# Altium schematic symbol library New_Library.SchLib: 40 symbols
Pins are listed as number, name and electrical type; pins without a type are passive.

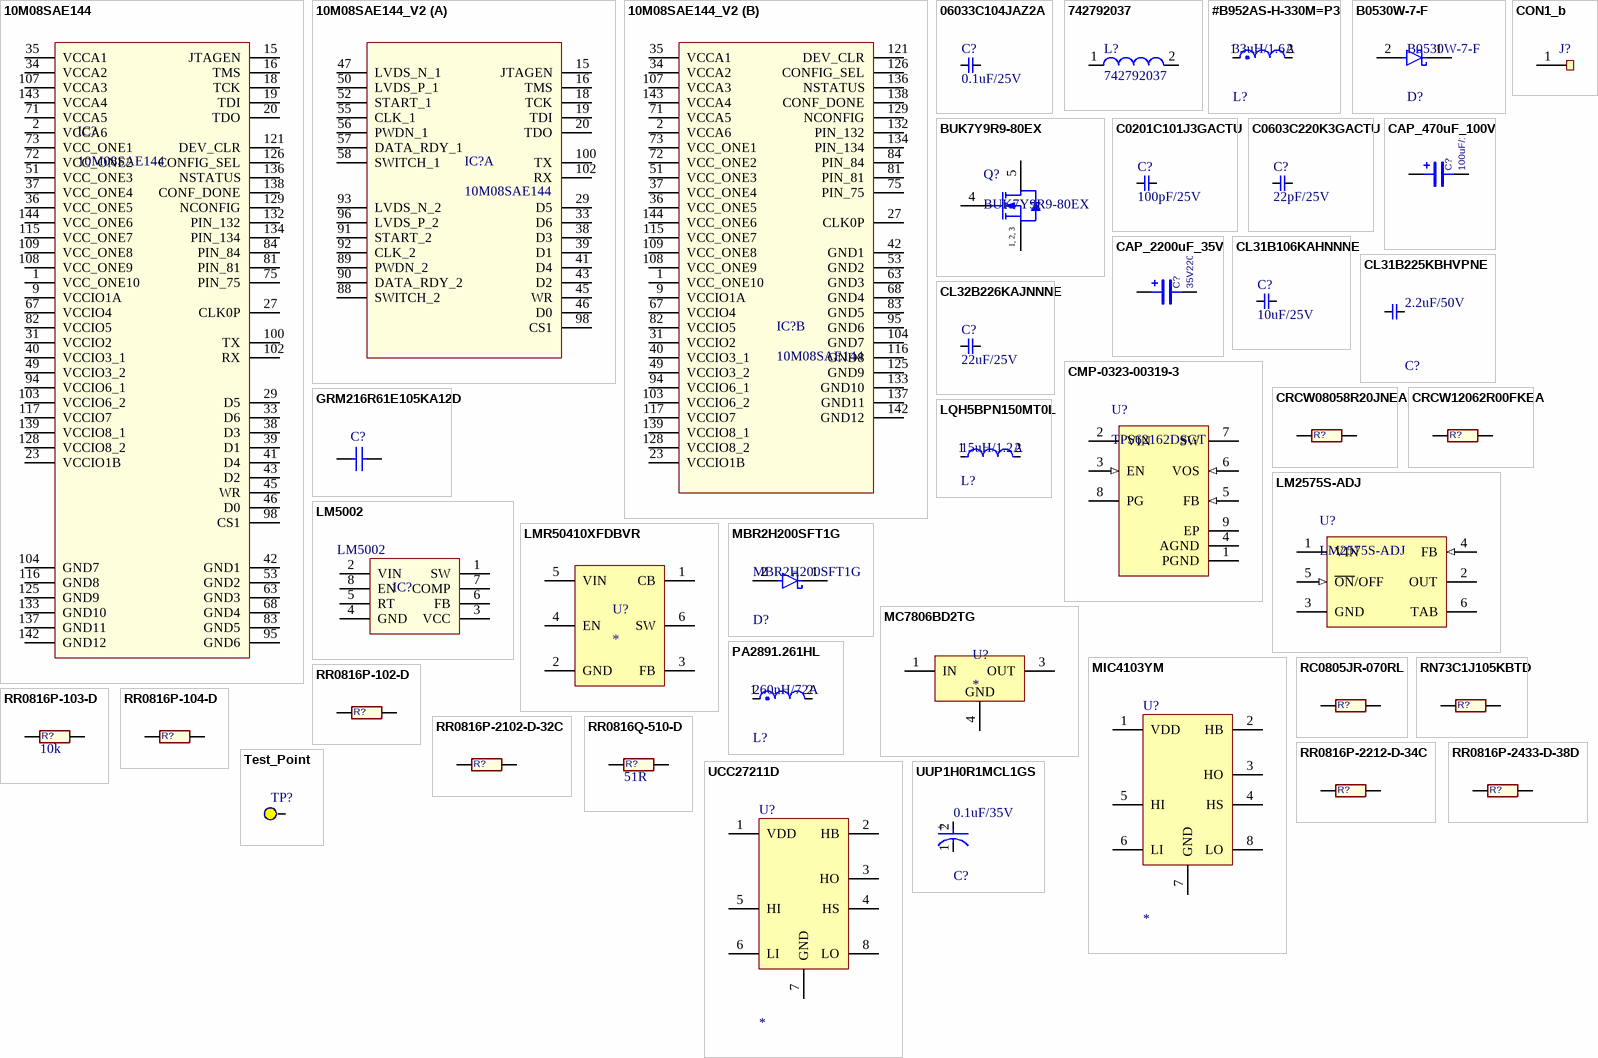
[diagram p0: symbols 10M08SAE144 to UUP1H0R1MCL1GS]

## 10M08SAE144
designator IC?
Manufacturer Part Number: 10M08SAE144C8G; Manufacturer: Intel; Supplier 1: Digi-Key; Supplier Part Number 1: 544-3132-ND
footprint SQFP50P2200X2200X200-144N (SQFP, 144-Leads, Body 20.00x20.00mm, Pitch 0.50mm, IPC Medium Density)
pins: 1 VCC_ONE10, 2 VCCA6, 9 VCCIO1A, 15 JTAGEN, 16 TMS, 18 TCK, 19 TDI, 20 TDO, 23 VCCIO1B, 27 CLK0P, 29 D5, 31 VCCIO2, 33 D6, 34 VCCA2, 35 VCCA1, 36 VCC_ONE5, 37 VCC_ONE4, 38 D3, 39 D1, 40 VCCIO3_1, 41 D4, 42 GND1, 43 D2, 45 WR, 46 D0, 49 VCCIO3_2, 51 VCC_ONE3, 53 GND2, 63 GND3, 67 VCCIO4, 68 GND4, 71 VCCA5, 72 VCC_ONE2, 73 VCC_ONE1, 75 PIN_75, 81 PIN_81, 82 VCCIO5, 83 GND5, 84 PIN_84, 94 VCCIO6_1, 95 GND6, 98 CS1, 100 TX, 102 RX, 103 VCCIO6_2, 104 GND7, 107 VCCA3, 108 VCC_ONE9, 109 VCC_ONE8, 115 VCC_ONE7, 116 GND8, 117 VCCIO7, 121 DEV_CLR, 125 GND9, 126 CONFIG_SEL, 128 VCCIO8_2, 129 NCONFIG, 132 PIN_132, 133 GND10, 134 PIN_134, 136 NSTATUS, 137 GND11, 138 CONF_DONE, 139 VCCIO8_1, 142 GND12, 143 VCCA4, 144 VCC_ONE6

## 10M08SAE144_V2
designator IC?, comment 10M08SAE144
Manufacturer Part Number: 10M08SAE144C8G; Manufacturer: Intel; Supplier 1: Digi-Key; Supplier Part Number 1: 544-3132-ND
footprint SQFP50P2200X2200X200-144N (SQFP, 144-Leads, Body 20.00x20.00mm, Pitch 0.50mm, IPC Medium Density)
part A pins: 15 JTAGEN, 16 TMS, 18 TCK, 19 TDI, 20 TDO, 29 D5, 33 D6, 38 D3, 39 D1, 41 D4, 43 D2, 45 WR, 46 D0, 47 LVDS_N_1, 50 LVDS_P_1, 52 START_1, 55 CLK_1, 56 PWDN_1, 57 DATA_RDY_1, 58 SWITCH_1, 88 SWITCH_2, 89 PWDN_2, 90 DATA_RDY_2, 91 START_2, 92 CLK_2, 93 LVDS_N_2, 96 LVDS_P_2, 98 CS1, 100 TX, 102 RX
part B pins: 1 VCC_ONE10, 2 VCCA6, 9 VCCIO1A, 23 VCCIO1B, 27 CLK0P, 31 VCCIO2, 34 VCCA2, 35 VCCA1, 36 VCC_ONE5, 37 VCC_ONE4, 40 VCCIO3_1, 42 GND1, 49 VCCIO3_2, 51 VCC_ONE3, 53 GND2, 63 GND3, 67 VCCIO4, 68 GND4, 71 VCCA5, 72 VCC_ONE2, 73 VCC_ONE1, 75 PIN_75, 81 PIN_81, 82 VCCIO5, 83 GND5, 84 PIN_84, 94 VCCIO6_1, 95 GND6, 103 VCCIO6_2, 104 GND7, 107 VCCA3, 108 VCC_ONE9, 109 VCC_ONE8, 115 VCC_ONE7, 116 GND8, 117 VCCIO7, 121 DEV_CLR, 125 GND9, 126 CONFIG_SEL, 128 VCCIO8_2, 129 NCONFIG, 132 PIN_132, 133 GND10, 134 PIN_134, 136 NSTATUS, 137 GND11, 138 CONF_DONE, 139 VCCIO8_1, 142 GND12, 143 VCCA4, 144 VCC_ONE6

## 06033C104JAZ2A
designator C?, comment 0.1uF/25V
0.1µF ±5% 25V Ceramic Capacitor X7R 0603 (1608 Metric); Manufacturer: Kyocera AVX; Manufacturer Part Number: 06033C104JAZ2A; Capacitance: 100nF; ComponentLink1URL: http://catalogs.avx.com/SurfaceMount.pdf?src-supplier=Digi-Key; ComponentLink1Description: http://catalogs.avx.com/SurfaceMount.pdf?src-supplier=Digi-Key; Case/Package: 0603; Category: Ceramic Capacitors; Dielectric: X7R; Features: Soft Termination; Length: 0.063inch; Max Operating Temperature: 125°C; Min Operating Temperature: -55°C; Mount: Surface Mount; Package Quantity: 4000; Packaging: Tape and Reel; RoHS Compliant: Yes; Thickness: 0.035inch; Tolerance: 5%; Voltage Rating: 25V; Voltage Rating (DC): 25V; Width: 0.031inch
footprint C-0603 (Capacitors 0603)
pins: 1 G, 2 G

## 742792037
designator L?
SMD EMI Suppression Ferrite Bead WE-CBF, Z = 330 Ohm; Impedance: 330 Ohm; PackageReference: SMD-0805; ComponentLink1URL: http://www.we-online.com; PackageVersion: 2005; ComponentLink2URL: http://www.we-online.de/katalog/media/pdf/742792037.pdf; ComponentLink1Description: Manufacturer Link; DatasheetVersion: Dec-2005; PackageDescription: Chip Inductor, 2-Leads, Body 2.0 x 1.2 mm; ComponentLink2Description: Datasheet
footprint SMD-0805 (Chip Inductor, 2-Leads, Body 2.0x1.2mm)
pins: 1, 2

## #B952AS-H-330M=P3
designator L?, comment 33uH/1.6A
Shielded Wirewound Inductor 33uH 20% 1600mA 0.125Ω SMD; Current Rating: 1.6A; Saturation Current: 2A; DC Resistance (DCR): 125mR; Core Material: Ferrite; Test Frequency: 100kHz; Shielding: Shielded; Tolerance: 20%; Height - Seated (Max): 0.19inch; Mount: Surface Mount; Resistor Type: Wirewound; Inductance: 33uH; Packaging: Tape and Reel; Min Operating Temperature: -40°C; Length: 0.409inch; Width: 0.409inch; Case/Package: Nonstandard; Max Operating Temperature: 85°C
footprint FP-DS104C2-MFG
pins: 1, 2

## B0530W-7-F
designator D?
DIODE SCHOTTKY 30V 500MA SOD123; Manufacturer: Diodes Inc.; Max Surge Forward Current: 5.5A; Forward Current: 0.5A; Max Junction Temp: +125°C; Standoff Height: 0mm; Capacitance: 170pF; Value: 170pF; Peak Reverse Current: 130uA; Footprint Url: https://www.diodes.com/assets/Package-Files/SOD123.pdf; Device Class L1: Discrete Semiconductors; ComponentLink2Description: Datasheet; Mouser Description: Schottky Diodes & Rectifiers 30V 410mW; Device Class L3: Schottky Diodes; Package: SOD123; Temperature: -65°C to +125°C; Temperature Range Low: -65°C; Lead Free: Yes; Digikey Description: DIODE SCHOTTKY 30V 500MA SOD123; Ipc Land Pattern Name: SOD365155X123-2; Automotive: No; Octopart: https://octopart.com/b0530w-7-f-diodes+inc.-325721; Device Class L2: Diodes; ComponentLink2URL: https://www.diodes.com/assets/Datasheets/ds30139.pdf; RoHS: TRUE; Height: 1.45mm; Max Repetitive Reverse Voltage: 30V; Category: Diode; Temperature Range High: +125°C; Manufacturer Part Number: B0530W-7-F; Reverse Voltage: 30V
footprint FP-SOD123-IPC_B
pins: 1 C, 2 A

## BUK7Y9R9-80EX
designator Q?
N-Channel 80V 89A (Tc) 195W (Tc) Surface Mount LFPAK56, Power-SO8; Manufacturer: Nexperia; Category: MOSFETs; Manufacturer Part Number: BUK7Y9R9-80EX; RoHS Compliant: No; ComponentLink1URL: https://assets.nexperia.com/documents/data-sheet/BUK7Y9R9-80E.pdf?src-supplier=Digi-Key; ComponentLink1Description: https://assets.nexperia.com/documents/data-sheet/BUK7Y9R9-80E.pdf?src-supplier=Digi-Key
footprint NXP-SOT669_N (DPAK, 4-Leads, Body 5x4.1mm, Pitch 1.27mm, IPC Medium Density)
footprint BUK7Y9R) (MOS FET)
pins: 1 S "source", 2 S "source", 3 S "source", 4 G "gate", 5 D "mounting base; connected to drain"
text: 1, 2, 3

## C0201C101J3GACTU
designator C?, comment 100pF/25V
100pF ±5% 25V Ceramic Capacitor C0G, NP0 0201 (0603 Metric); Manufacturer: KEMET; Manufacturer Part Number: C0201C101J3GACTU; Capacitance: 100pF; Case Code (Imperial): 0201; Case Code (Metric): 0603; Case/Package: 0201; Category: Ceramic Capacitors; Construction: Flat; Depth: 0.3mm; Dielectric: C0G; Height: 0.3mm; Length: 0.6mm; Max Operating Temperature: 125°C; Min Operating Temperature: -55°C; Mount: Surface Mount; Package Quantity: 1; Packaging: Tape and Reel; Radiation Hardening: No; RoHS Compliant: Yes; Series: C; Thickness: 0.013inch; Tolerance: 5%; Voltage: 25V; Voltage Rating: 25V; Width: 0.3mm; ComponentLink1URL: https://datasheet.ciiva.com/25795/cl31b106kahnnne-25795260.pdf?src-supplier=Digi-Key; ComponentLink1Description: https://datasheet.ciiva.com/25795/cl31b106kahnnne-25795260.pdf?src-supplier=Digi-Key; Contact Plating: Tin,Matte; REACH SVHC: No SVHC; Termination: SMD/SMT; Voltage Rating (DC): 25V; Weight: 6E-06oz
footprint C-0603 (Capacitors 0603)
pins: 1 G, 2 G

## C0603C220K3GACTU
designator C?, comment 22pF/25V
22pF ±10% 25V Ceramic Capacitor C0G, NP0 0603 (1608 Metric); Manufacturer: KEMET; Manufacturer Part Number: C0603C220K3GACTU; Dissipation Factor: 0.1%; Width: 0.031inch; Capacitance: 22pF; Case Code (Imperial): 0603; Case Code (Metric): 1608; Case/Package: 0603; Category: Ceramic Capacitors; Construction: Flat; Contact Plating: Tin,Matte; Depth: 0.8mm; Dielectric: C0G; Dielectric Material: Ceramic; Height: 0.8mm; Lead Free: Lead Free; Lead Pitch: 0.7mm; Length: 1.6mm; Max Operating Temperature: 125°C; Min Operating Temperature: -55°C; Mount: Surface Mount; Package Quantity: 4000; Packaging: Tape and Reel; Radiation Hardening: No; RoHS Compliant: Yes; Series: C; Termination: SMD/SMT; Thickness: 0.034inch; Tolerance: 10%; Voltage Rating: 25V; Voltage Rating (DC): 25V; ComponentLink1URL: https://datasheet.ciiva.com/5413/kem-c1003-c0g-smd-356956-5413159.pdf?src-supplier=Mouser; ComponentLink1Description: https://datasheet.ciiva.com/5413/kem-c1003-c0g-smd-356956-5413159.pdf?src-supplier=Mouser
footprint C-0603 (Capacitors 0603)
pins: 1 G, 2 G

## CAP_470uF_100V
designator C?, comment 100uF/100V
Capacitor
footprint CAP_16X25 (Polar Capacitors)
pins: 1, 2

## CAP_2200uF_35V
designator C?, comment 35V2200u
Capacitor; Manufacturer: Kemet; Manufacturer Part Number: ESH228M035AM7AA; Capacitance: 2200µF; Tolerance: ±20%; Voltage Rating: 35V; Lifetime @ Temp.: 2000 Hrs @ 105°C; Supplier 1: Digi-Key; Supplier Part Number 1: 399-6572-ND; RoHS: RoHS Compliant; Category: Capacitors; Stock 1: 1972; Pricing 1: 1=0.98, 10=0.77, 50=0.6676, 100=0.5778, 250=0.5136, 500=0.43656, 1000=0.3852, 2500=0.35952, 5000=0.34668 (USD); Packaging: Bulk; ESR (Equivalent Series Resistance): -; Operating Temperature: -40°C ~ 105°C; Type: -; Applications: General Purpose; Ripple Current: -; Impedance: -; Lead Spacing: 0.295" (7.50mm); Size / Dimension: 0.630" Dia (16.00mm); Height - Seated (Max): 1.063" (27.00mm); Surface Mount Land Size: -; Mounting Type: Through Hole; Package / Case: Radial, Can; ComponentLink1URL: http://www.kemet.com/docfinder?Partnumber=ESH228M035AM7AA; ComponentLink1Description: http://www.kemet.com/docfinder?Partnumber=ESH228M035AM7AA
footprint CAP_16X25 (Polar Capacitors)
pins: 1, 2

## CL31B106KAHNNNE
designator C?, comment 10uF/25V
10µF ±10% 25V Ceramic Capacitor X7R 1206 (3216 Metric); Manufacturer: Samsung; Manufacturer Part Number: CL31B106KAHNNNE; Capacitance: 10uF; Case Code (Imperial): 1206; Case Code (Metric): 3216; Case/Package: 1206; Category: Ceramic Capacitors; Construction: Flat; Depth: 1.6mm; Dielectric: X7R; Height: 1.6mm; Length: 3.2mm; Max Operating Temperature: 125°C; Min Operating Temperature: -55°C; Mount: Surface Mount; Package Quantity: 1; Packaging: Tape and Reel; Radiation Hardening: No; RoHS Compliant: Yes; Series: CL; Thickness: 0.071inch; Tolerance: 10%; Voltage: 25V; Voltage Rating: 25V; Width: 0.063inch; ComponentLink1URL: https://datasheet.ciiva.com/25795/cl31b106kahnnne-25795260.pdf?src-supplier=Digi-Key; ComponentLink1Description: https://datasheet.ciiva.com/25795/cl31b106kahnnne-25795260.pdf?src-supplier=Digi-Key
footprint C-1206 (3216 metric)
pins: 1 G, 2 G

## CL31B225KBHVPNE
designator C?, comment 2.2uF/50V
Cap Ceramic 2.2uF 50V X7R ±10% SMD 1206 +125°C Embossed T/R; Width: 0.063inch; Case/Package: 1206; Tolerance: 10%; Mount: Surface Mount; Capacitance: 2.2uF; Ratings: AEC-Q200; Thickness: 0.071inch; Voltage Rating: 50V; Features: Soft Termination; Case Code (Metric): 3216; Length: 0.126inch; Packaging: Tape and Reel; Max Operating Temperature: 125°C; Min Operating Temperature: -55°C; Case Code (Imperial): 1206; Dielectric: X7R
footprint FP-CL31-IPC_B
pins: 1 G, 2 G

## CL32B226KAJNNNE
designator C?, comment 22uF/25V
22µF ±10% 25V Ceramic Capacitor X7R 1210 (3225 Metric); Manufacturer: Samsung; Manufacturer Part Number: CL32B226KAJNNNE; Capacitance: 22uF; Case Code (Imperial): 1210; Case Code (Metric): 3225; Case/Package: 1210; Category: Ceramic Capacitors; Construction: Flat; Depth: 2.5mm; Dielectric: X7R; Height: 2.5mm; Lead Free: Lead Free; Length: 3.2mm; Material: Ceramic; Max Operating Temperature: 125°C; Min Operating Temperature: -55°C; Mount: Surface Mount; Package Quantity: 1; Packaging: Tape and Reel; Radiation Hardening: No; RoHS Compliant: Yes; Series: CL; Thickness: 0.106inch; Tolerance: 10%; Voltage Rating: 25V; Voltage Rating (DC): 25V; Width: 0.098inch
footprint CAP-1210 (Capacitors, SMD, 1210)
pins: 1 G, 2 G

## CMP-0323-00319-3
designator U?, comment TPS62162DSGT
Buck Step Down Regulator with 3 to 17 V Input and 3.3 V Output, -40 to 85 degC, 8-Pin WSON (DSG), Green (RoHS & no Sb/Br); Manufacturer: Texas Instruments; Synchronous Rectification: TRUE; Iq(Typ)(mA): 0.017; Switch Current Limit(Typ)(A): 1.8; Regulated Outputs(#): 1; Duty Cycle(Max)(%): 100; SubFamily: Step-Down Regulator; Preset Vout(V): 3.3; Rating: Catalog; Vin(Max)(V): 17; Vin(Min)(V): 3; ComponentLink2Description: Package Specification; PackageVersion: revB, Oct-2010; DatasheetVersion: SLVSAM2A; ComponentLink1Description: Datasheet; PackageDescription: 8-Pin Plastic Small Outline No-Lead, 2 x 2 x 0.8 mm Body, 0.5 mm Pitch, Exposed Pad; ComponentLink2URL: http://www.ti.com/litv/pdf/mpds308a; Code_JEDEC: MO-229; PartNumber: TPS62162DSGT; ComponentLink3URL: Samples URL:http://www.ti.com/product/tps54611#samples; Mounting Technology: Surface Mount; Eco-Plan: Green (RoHS & no Sb/Br); Vout(Min)(V): 3.3; PackageReference: DSG0008A; Topology: Buck; ComponentLink1URL: http://www.ti.com/general/docs/lit/getliterature.tsp?genericPartNumber=TPS62162&fileType=pdf; Vout(Max)(V): 3.3; Iout(Max)(A): 1; ComponentLink3Description: URL Link1
footprint DSG0008A_V (SON, 8-Leads, Body 2x2mm, Pitch 0.5mm, Thermal Pad 1.6x0.9mm, TI Recommended)
pins: 1 PGND (power) "Power ground", 2 VIN (power) "Supply voltage", 3 EN (in) "Enable input (High = enabled, Low = disabled)", 4 AGND (power) "Analog Ground", 5 FB (in) "Voltage feedback of adjustable version. Connect resistive voltage divider to this pin. It is recommended to connect FB to AGND on fixed output voltage versions for improved thermal performance.", 6 VOS (in) "Output voltage sense pin and connection for the control loop circuitry.", 7 SW (power) "Switch node, which is connected to the internal MOSFET switches.Connect inductor between SW and output capacitor.", 8 PG (hiz) "Output power good (High = VOUT ready, Low = VOUT below nominal regulation) ; open drain (requires pull-up resistor; goes high impedance, when device is switched off)", 9 EP (power) "Must be connected to AGND. Must be soldered to achieve appropriate power dissipation and mechanical Thermal Pad reliability."

## CON1_b
designator J?  (value not drawn)
footprint CONN1 _b
pins: 1 23

## CRCW08058R20JNEA
designator R?, comment 8.2R  (value not drawn)
8.2 Ohms ±5% 0.125W, 1/8W Chip Resistor 0805 (2012 Metric) Automotive AEC-Q200 Thick Film; Manufacturer: Vishay Dale; Manufacturer Part Number: CRCW08058R20JNEA; Max Power Dissipation: 125mW; Temperature Coefficient: 200ppm/°C; Voltage Rating: 150V; Case Code (Imperial): 0805; Case Code (Metric): 2012; Case/Package: 0805; Category: Chip SMD Resistors; Construction: Rectangular; Contact Plating: Tin; Depth: 1.25mm; Features: Automotive AEC-Q200; Height: 0.02inch; Lead Free: Lead Free; Length: 2mm; Max Operating Temperature: 155°C; Military Standard: Not; Min Operating Temperature: -55°C; Mount: Surface Mount; Number of Pins: 2; Number of Terminations: 2; Package Quantity: 1; Packaging: Tape and Reel; Power Rating: 125mW; Radiation Hardening: No; REACH SVHC: Unknown; Resistance: 8.2R; Resistance Tolerance: 5%; Resistor Type: Thick Film; RoHS Compliant: Yes; Series: CRCW; Size Code: 0805; Tolerance: 5%; Voltage Rating (DC): 150V; Weight: 0.000194oz; Width: 1.25mm; ComponentLink1URL: https://datasheet.ciiva.com/2512/dcrcwe3-2512297.pdf?src-supplier=Digi-Key; ComponentLink1Description: https://datasheet.ciiva.com/2512/dcrcwe3-2512297.pdf?src-supplier=Digi-Key
footprint RES-0805 (SMD, 0805)
pins: 1, 2

## CRCW12062R00FKEA
designator R?, comment 0R  (value not drawn)
2 Ohms ±1% 0.25W, 1/4W Chip Resistor 1206 (3216 Metric) Automotive AEC-Q200 Thick Film; Manufacturer: Vishay Dale; Manufacturer Part Number: CRCW12062R00FKEA; Max Power Dissipation: 250mW; Resistance: 2R; Temperature Coefficient: 100ppm/°C; Voltage Rating: 200V; Case Code (Imperial): 1206; Case Code (Metric): 3216; Case/Package: 1206; Category: Chip SMD Resistors; Construction: Rectangular; Contact Plating: Tin; Depth: 1.6mm; Features: Automotive AEC-Q200; Height: 0.024inch; Lead Free: Lead Free; Length: 3.2mm; Max Operating Temperature: 155°C; Military Standard: Not; Min Operating Temperature: -55°C; Number of Pins: 2; Number of Terminations: 2; Package Quantity: 10; Packaging: Tape and Reel; Power Rating: 250mW; Radiation Hardening: No; REACH SVHC: Unknown; Resistance Tolerance: 1%; Resistor Type: Thick Film; RoHS Compliant: Yes; Series: CRCW; Termination: SMD/SMT; Tolerance: 1%; Voltage Rating (DC): 200V; Weight: 0.000353oz; Width: 1.6mm; ComponentLink1URL: https://datasheet.ciiva.com/2469/dcrcwe3-2469237.pdf?src-supplier=Digi-Key; ComponentLink1Description: https://datasheet.ciiva.com/2469/dcrcwe3-2469237.pdf?src-supplier=Digi-Key
footprint RESC3216X60X45NL10T20 (Chip Resistor, 2-Leads, Body 3.20x1.60mm, IPC Medium Density)
pins: 1, 2

## GRM216R61E105KA12D
designator C?, comment 1uF/25V  (value not drawn)
1µF ±10% 25V Ceramic Capacitor X5R 0805 (2012 Metric); Part Number: GRM216R61E105KA12D; Manufacturer: Murata
footprint CAPC2013X70X45LL10T25 (Chip Capacitor, 2-Leads, Body 2.00x1.25mm, IPC High Density)
pins: 1, 2
1 alternate drawing of the same symbol

## LM2575S-ADJ
designator U?
SIMPLE SWITCHER® 1A Step-Down Voltage Regulator, 5-pin TO-263; Manufacturer: Texas Instruments; PowerWise: N; PackageTopMarking: NSUZXYTTE#*LM2575S*-ADJ P+; ComponentLink1Description: Datasheet URL; PackageReference: KTT0005B; RoHS: N; ComponentLink1URL: http://www.ti.com/general/docs/lit/getliterature.tsp?genericPartNumber=LM2575-N&fileType=pdf; CompType: Switcher; PackageDescription: TO-263, Molded, .400 x .390 x .180in, 5 Lead, .067in Pitch, Surface Mount; Code_JEDEC: MO-169-AB; PinCount: 5
footprint KTT0005B_N (DPAK, 5-Leads, Body 10.65x9.65mm, Pitch 1.7mm, IPC Medium Density)
footprint KTT0005B_M (DPAK, 5-Leads, Body 10.65x9.65mm, Pitch 1.7mm, IPC Low Density)
footprint KTT0005B_L (DPAK, 5-Leads, Body 10.65x9.65mm, Pitch 1.7mm, IPC High Density)
pins: 1 VIN (power), 2 OUT (power), 3 GND (power), 4 FB (in), 5 ~{ON}/OFF (in), 6 TAB (power)

## LM5002
designator IC?  Base Part Number: LM5002  (hidden comment: *)
Manufacturer 1: Texas Instruments; Manufacturer Part Number 1: LM5002SD/NOPB; Description 1: IC REG MULT CONFIG ISO ADJ 8WSON; Category 1: Integrated Circuits (ICs); Function: Step-Up, Step-Up/Step-Down; Output Configuration: Positive, Isolation Capable; Topology: Boost, Flyback, Forward Converter, SEPIC; Output Type: Adjustable; Number of Outputs: 1; Voltage - Input (Min): 3.1V; Voltage - Input (Max): 75V; Voltage - Output (Max): 76V (Switch); Current - Output: 400mA (Switch); Frequency - Switching: 50kHz ~ 1.5MHz; Synchronous Rectifier: No; Supplier 1: Digi-Key; Supplier Part Number 1: LM5002SD/NOPBTR-ND; RoHS 1: RoHS Compliant; Stock 1: 3000; Pricing 1: 1000=1.9656, 2000=1.86732, 5000=1.79712 (USD); Packaging: Tape & Reel (TR); Part Status: Active; Voltage - Output (Min/Fixed): 3.1V; Operating Temperature: -40°C ~ 125°C (TJ); Mounting Type: Surface Mount; Package / Case: 8-WDFN Exposed Pad; Supplier Device Package: 8-WSON (4x4); ComponentLink1URL: http://www.ti.com/lit/ds/symlink/lm5002.pdf; ComponentLink1Description: http://www.ti.com/lit/ds/symlink/lm5002.pdf
footprint SOIC127P600X205-8N (SOIC, 8-Leads, Body 4.90x3.90mm, Pitch 1.27mm, IPC Medium Density)
pins: 1 SW, 2 VIN, 3 VCC, 4 GND, 5 RT, 6 FB, 7 COMP, 8 EN

## LMR50410XFDBVR
designator U?
Buck Switching Regulator IC Positive Adjustable 1V 1 Output 1A SOT-23-6; Manufacturer: Texas Instruments; Manufacturer Part Number: LMR50410XFDBVR
footprint SOT-23 (Pitch 0.95mm)
pins: 1 CB, 2 GND, 3 FB, 4 EN, 5 VIN, 6 SW

## LQH5BPN150MT0L
designator L?, comment 15uH/1.2A
15µH Shielded Wirewound Inductor 1.2A 187mOhm Max Nonstandard; Core Material: Ferrite; Inductance: 15uH; Saturation Current: 1.6A; Test Frequency: 100kHz; Self Resonant Frequency: 18MHz; Tolerance: 20%; DC Resistance (DCR): 225mR; Max Operating Temperature: 85°C; Length: 0.197inch; Depth: 5.2mm; REACH SVHC: No SVHC; Package Quantity: 500; Packaging: Tape and Reel; Resistor Type: Wirewound; Inductance Tolerance: 20%; Military Standard: Not; DC Current: 1.2A; Min Operating Temperature: -40°C; Current Rating: 1.2A; Case Code (Metric): 5050; Height - Seated (Max): 0.086inch; Case/Package: 2020; Termination: SMD/SMT; Case Code (Imperial): 2020; Shielding: Shielded; Height: 2mm; Width: 5mm; Max DC Current: 1.6A; Mount: Surface Mount
footprint FP-LQH5BPB_T0-MFG
pins: 1, 2

## MBR2H200SFT1G
designator D?
DIODE SCHOTTKY 200V 2A SOD123FL; Manufacturer: ON Semiconductor; Peak Reverse Current: 200uA; Max Surge Forward Current: 30A; Max Junction Temp: +150°C; Standoff Height: 0mm; Device Class L1: Discrete Semiconductors; Package: 498; Temperature Range High: +150°C; Height: 0.98mm; Temperature: -55°C to +150°C; Forward Current: 2A; Octopart: https://octopart.com/mbr2h200sft1g-on+semiconductor-51167333; Reverse Voltage: 200V; Max Repetitive Reverse Voltage: 200V; RoHS: TRUE; Lead Free: Yes; Footprint Url: https://www.onsemi.com/pub/Collateral/498-01.PDF; ComponentLink2Description: Datasheet; Category: Diode; Manufacturer Part Number: MBR2H200SFT1G; Digikey Description: DIODE SCHOTTKY 200V 2A SOD123FL; Device Class L3: Schottky Diodes; Temperature Range Low: -55°C; ComponentLink2URL: https://www.onsemi.com/pub/Collateral/MBR2H200SF-D.PDF; Automotive: No; Device Class L2: Diodes
footprint FP-498-MFG
pins: 1 C, 2 A

## MC7806BD2TG
designator U?
IC REG LINEAR 6V 1A D2PAK; Manufacturer: ON Semiconductor; Manufacturer Part Number: MC7806BD2TG; Accuracy: 4%; Dropout Voltage: 2V; Max Input Voltage: 35V; Number of Outputs: 1; Output Type: Fixed; Polarity: Positive; Quiescent Current: 8mA; Case/Package: D2PAK; Category: Voltage Regulators - Linear; Contact Plating: Tin,Matte; Halogen Free: Halogen Free; Height: 4.572mm; Lead Free: Lead Free; Length: 10.24mm; Max Operating Temperature: 125°C; Max Output Current: 1A; Min Input Voltage: 35V; Min Operating Temperature: -40°C; Min Output Voltage: 6V; Mount: Surface Mount; Number of Pins: 3; Number of Regulators: 1; Output Current: 1A; Output Voltage: 6V; Output Voltage Accuracy: 4%; Package Quantity: 50; Packaging: Rail/Tube; Radiation Hardening: No; RoHS Compliant: Yes; Series: -; Width: 9.347mm; ComponentLink1URL: https://datasheet.ciiva.com/6581/mc7800-d-6581174.pdf?src-supplier=Digi-Key; ComponentLink1Description: https://datasheet.ciiva.com/6581/mc7800-d-6581174.pdf?src-supplier=Digi-Key
footprint D2PAK (DPAK, 3-Leads, Body 10.24x9.35mm, Pitch 2.54mm)
pins: 1 IN (power), 3 OUT (power), 4 GND (power)

## MIC4103YM
designator U?
Manufacturer: Microchip; Manufacturer Part Number: MIC4103YM; Turn-On Delay Time: 45ns; Channel Type: Independent; Element Configuration: Single; Fall Time: 6ns; Max Output Current: 3A; Max Supply Voltage: 16V; Min Supply Voltage: 9V; Nominal Supply Current: 3mA; Number of Drivers: 2; Number of Outputs: 1; Output Impedance: 2.5R; Propagation Delay: 24ns; Rise Time: 10ns; Supplier 1: Digi-Key; Parameter 1: *; Supplier Part Number 1: 576-1589-ND; ComponentLink1URL: https://datasheet.ciiva.com/1950/mic4103-4-1950412.pdf?src-supplier=Digi-Key; ComponentLink1Description: https://datasheet.ciiva.com/1950/mic4103-4-1950412.pdf?src-supplier=Digi-Key; Case/Package: SOIC; Category: Gate Drivers; Lead Free: Lead Free; Max Operating Temperature: 125°C; Min Operating Temperature: -40°C; Mount: Surface Mount; Number of Pins: 8; Package Quantity: 95; Packaging: Tray; REACH SVHC: No SVHC; RoHS Compliant: Yes; Series: -; Supply Current: 3mA; Turn-Off Delay Time: 45ns
footprint 8-Pin SOIC (M) (Pitch 1.27mm)
pins: 1 VDD, 2 HB, 3 HO, 4 HS, 5 HI, 6 LI, 7 GND, 8 LO

## PA2891.261HL
designator L?, comment 260nH/72A
260nH Shielded  Inductor 72A 0.22mOhm Nonstandard; Manufacturer: Pulse; Manufacturer Part Number: PA2891.261HLT; Shielding: Unshielded; Tolerance: 10%; Saturation Current: 67A; DC Resistance (DCR): 0.22mR; Core Material: Ferrite; Test Frequency: 100kHz; Current Rating: 72A; Height - Seated (Max): 0.19inch; Mount: Surface Mount; Resistor Type: Wirewound; Inductance: 260nH; Packaging: Bulk; Min Operating Temperature: -40°C; Length: 0.539inch; Width: 0.51inch; Case/Package: SMD/SMT; Max Operating Temperature: 85°C; Category: Fixed Inductors; Package Quantity: 1; RoHS Compliant: Yes; Series: PA2891.XXXHL
footprint PA2891_FOOTPRINT
pins: 1, 2

## RC0805JR-070RL
designator R?, comment 0R  (value not drawn)
0 Ohms Jumper 0.125W, 1/8W Chip Resistor 0805 (2012 Metric) Moisture Resistant Thick Film
footprint RES-0805 (SMD, 0805)
pins: 1, 2

## RN73C1J105KBTD
designator R?, comment 105k  (value not drawn)
105 kOhms ±0.1% 0.063W, 1/16W Chip Resistor 0603 (1608 Metric)  Thin Film; Manufacturer: TE Connectivity; Manufacturer Part Number: RN73C1J105KBTDF; Max Power Dissipation: 63mW; Number of Resistors: 1; Resistance: 105kR; Temperature Coefficient: 10ppm/°C; Voltage Rating: 50V; Case Code (Imperial): 0603; Case Code (Metric): 1608; Case/Package: 0603; Category: Chip SMD Resistors; ELV: Compliant; Height: 0.45mm; Length: 1.55mm; Max Operating Temperature: 155°C; Min Operating Temperature: -55°C; Mount: Surface Mount; Number of Terminations: 2; Package Quantity: 1000; Packaging: Tape and Reel; Power Rating: 63mW; Resistance Tolerance: 0.1%; Resistor Type: Thin Film; RoHS Compliant: Yes; Series: RN73, Holsworthy; Termination: Solder; Tolerance: 0.1%; Voltage Rating (DC): 50V; Width: 0.8mm; ComponentLink1URL: https://www.te.com/commerce/DocumentDelivery/DDEController?Action=srchrtrv&amp;DocNm=1773270&amp;DocType=DS&amp;DocLang=English&src-supplier=Digi-Key; ComponentLink1Description: https://www.te.com/commerce/DocumentDelivery/DDEController?Action=srchrtrv&amp;DocNm=1773270&amp;DocType=DS&amp;DocLang=English&src-supplier=Digi-Key
footprint R-0603 (Resistor  0603)
pins: 1, 2

## RR0816P-102-D
designator R?, comment 1k  (value not drawn)
1 kOhms ±0.5% 0.063W, 1/16W Chip Resistor 0603 (1608 Metric)  Thin Film; Manufacturer: Susumu; Manufacturer Part Number: RR0816P-102-D; Max Power Dissipation: 63mW; Resistance: 1kR; Temperature Coefficient: 25ppm/°C; Voltage Rating: 75V; Width: 0.031inch; Case Code (Imperial): 0603; Case Code (Metric): 1608; Case/Package: 0603; Category: Chip SMD Resistors; Depth: 0.8mm; Height: 0.4mm; Lead Free: Lead Free; Length: 1.6mm; Max Operating Temperature: 125°C; Min Operating Temperature: -55°C; Number of Pins: 2; Number of Terminations: 2; Package Quantity: 1; Packaging: Tape and Reel; Power Rating: 63mW; REACH SVHC: Unknown; Resistance Tolerance: 0.5%; Resistor Type: Thin Film; RoHS Compliant: Yes; Series: RR; Size Code: 0603; Technology: THIN FILM; Termination: SMD/SMT; Tolerance: 0.5%; Voltage Rating (DC): 75V; ComponentLink1URL: https://datasheet.ciiva.com/2487/rr-data-sheet-2487025.pdf?src-supplier=Digi-Key; ComponentLink1Description: https://datasheet.ciiva.com/2487/rr-data-sheet-2487025.pdf?src-supplier=Digi-Key
footprint R-0603 (Resistor  0603)
pins: 1, 2

## RR0816P-103-D
designator R?, comment 10k
10 kOhms ±0.5% 0.063W, 1/16W Chip Resistor 0603 (1608 Metric)  Thin Film; Manufacturer: Susumu; Manufacturer Part Number: RR0816P-103-D; Max Power Dissipation: 63mW; Resistance: 10kR; Temperature Coefficient: 25ppm/°C; Voltage Rating: 75V; Width: 0.8mm; Case Code (Imperial): 0603; Case Code (Metric): 1608; Case/Package: 0603; Category: Chip SMD Resistors; Depth: 0.8mm; Height: 0.4mm; Lead Free: Lead Free; Length: 1.6mm; Max Operating Temperature: 125°C; Min Operating Temperature: -55°C; Number of Pins: 2; Number of Terminations: 2; Package Quantity: 1; Packaging: Tape and Reel; Power Rating: 63mW; REACH SVHC: Unknown; Resistance Tolerance: 0.5%; Resistor Type: Thin Film; RoHS Compliant: Yes; Series: RR; Size Code: 0603; Technology: THIN FILM; Termination: SMD/SMT; Tolerance: 0.5%; Voltage Rating (DC): 75V; Weight: 7.1E-05oz
footprint R-0603 (Resistor  0603)
pins: 1, 2

## RR0816P-104-D
designator R?, comment 100k  (value not drawn)
100 kOhms ±0.5% 0.063W, 1/16W Chip Resistor 0603 (1608 Metric)  Thin Film; Manufacturer: Susumu; Manufacturer Part Number: RR0816P-104-D; Working Voltage: 75V; Max Power Dissipation: 63mW; Resistance: 100kR; Temperature Coefficient: 25ppm/°C; ComponentLink1URL: https://datasheet.ciiva.com/2487/rr-data-sheet-2487067.pdf?src-supplier=Digi-Key; ComponentLink1Description: https://datasheet.ciiva.com/2487/rr-data-sheet-2487067.pdf?src-supplier=Digi-Key; Case Code (Imperial): 0603; Case Code (Metric): 1608; Case/Package: 0603; Category: Chip SMD Resistors; Depth: 0.8mm; Height: 0.4mm; Lead Free: Lead Free; Length: 1.6mm; Max Operating Temperature: 125°C; Min Operating Temperature: -55°C; Number of Pins: 2; Number of Terminations: 2; Package Quantity: 1; Packaging: Tape and Reel; Power Rating: 63mW; REACH SVHC: Unknown; Resistance Tolerance: 0.5%; Resistor Type: Thin Film; RoHS Compliant: Yes; Series: RR; Technology: THIN FILM; Termination: SMD/SMT; Tolerance: 0.5%; Voltage Rating: 75V; Voltage Rating (DC): 75V; Width: 0.8mm
footprint R-0603 (Resistor  0603)
pins: 1, 2

## RR0816P-2102-D-32C
designator R?, comment 21k  (value not drawn)
21 kOhms ±0.5% 0.063W, 1/16W Chip Resistor 0603 (1608 Metric)  Thin Film; Manufacturer: Susumu; Manufacturer Part Number: RR0816P-2102-D-32C; Max Power Dissipation: 63mW; Power Rating: 62.5mW; Resistance: 21kR; Temperature Coefficient: 25ppm/°C; Voltage Rating: 75V; Case Code (Imperial): 0603; Case Code (Metric): 1608; Case/Package: 0603; Category: Chip SMD Resistors; Height: 0.02inch; Lead Free: Lead Free; Length: 0.063inch; Max Operating Temperature: 125°C; Min Operating Temperature: -55°C; Number of Terminations: 2; Package Quantity: 1; Packaging: Tape and Reel; Resistor Type: Thin Film; RoHS Compliant: Yes; Series: RR; Size Code: 0603; Termination: SMD/SMT; Tolerance: 0.5%; Voltage Rating (DC): 75V; Width: 0.8mm; ComponentLink1URL: https://datasheet.ciiva.com/2487/rr-data-sheet-2487553.pdf?src-supplier=Digi-Key; ComponentLink1Description: https://datasheet.ciiva.com/2487/rr-data-sheet-2487553.pdf?src-supplier=Digi-Key
footprint R-0603 (Resistor  0603)
pins: 1, 2

## RR0816P-2212-D-34C
designator R?, comment 22.1k  (value not drawn)
22.1 kOhms ±0.5% 0.063W, 1/16W Chip Resistor 0603 (1608 Metric)  Thin Film; Manufacturer: Susumu; Manufacturer Part Number: RR0816P-2212-D-34C; Max Power Dissipation: 63mW; Power Rating: 62.5mW; Resistance: 22.1kR; Temperature Coefficient: 25ppm/°C; Voltage Rating: 75V; Case Code (Imperial): 0603; Case Code (Metric): 1608; Case/Package: 0603; Category: Chip SMD Resistors; Height: 0.02inch; Height - Seated (Max): 0.02inch; Lead Free: Lead Free; Length: 0.063inch; Max Operating Temperature: 125°C; Min Operating Temperature: -55°C; Number of Terminations: 2; Package Quantity: 1; Packaging: Tape and Reel; Resistor Type: Thin Film; RoHS Compliant: Yes; Series: RR; Size Code: 0603; Termination: SMD/SMT; Tolerance: 0.5%; Voltage Rating (DC): 75V; Width: 0.032inch; ComponentLink1URL: https://datasheet.ciiva.com/2497/rr-data-sheet-2497842.pdf?src-supplier=Digi-Key; ComponentLink1Description: https://datasheet.ciiva.com/2497/rr-data-sheet-2497842.pdf?src-supplier=Digi-Key
footprint R-0603 (Resistor  0603)
pins: 1, 2

## RR0816P-2433-D-38D
designator R?, comment 243k  (value not drawn)
243 kOhms ±0.5% 0.063W, 1/16W Chip Resistor 0603 (1608 Metric)  Thin Film; Manufacturer: Susumu; Manufacturer Part Number: RR0816P-2433-D-38D; Max Power Dissipation: 63mW; Power Rating: 62.5mW; Resistance: 243kR; Temperature Coefficient: 25ppm/°C; Voltage Rating: 75V; Width: 0.8mm; Case Code (Imperial): 0603; Case Code (Metric): 1608; Case/Package: 0603; Category: Chip SMD Resistors; Height: 0.02inch; Lead Free: Lead Free; Length: 0.063inch; Max Operating Temperature: 125°C; Min Operating Temperature: -55°C; Number of Terminations: 2; Package Quantity: 1; Packaging: Tape and Reel; Resistor Type: Thin Film; RoHS Compliant: Yes; Series: RR; Termination: SMD/SMT; Tolerance: 0.5%; Voltage Rating (DC): 75V; Weight: 7.1E-05oz; ComponentLink1URL: https://datasheet.ciiva.com/2498/rr-data-sheet-2498074.pdf?src-supplier=Digi-Key; ComponentLink1Description: https://datasheet.ciiva.com/2498/rr-data-sheet-2498074.pdf?src-supplier=Digi-Key
footprint R-0603 (Resistor  0603)
pins: 1, 2

## RR0816Q-510-D
designator R?, comment 51R
51 Ohms ±0.5% 0.063W, 1/16W Chip Resistor 0603 (1608 Metric)  Thin Film; Manufacturer: Susumu; Manufacturer Part Number: RR0816Q-510-D; Max Power Dissipation: 63mW; Power Rating: 62.5mW; Temperature Coefficient: 50ppm/°C; Voltage Rating: 75V; ComponentLink1URL: https://datasheet.ciiva.com/2498/rr-data-sheet-2498074.pdf?src-supplier=Digi-Key; ComponentLink1Description: https://datasheet.ciiva.com/2498/rr-data-sheet-2498074.pdf?src-supplier=Digi-Key; Width: 0.8mm; Case Code (Imperial): 0603; Case Code (Metric): 1608; Case/Package: 0603; Category: Chip SMD Resistors; Depth: 0.8mm; Height: 0.4mm; Lead Free: Lead Free; Length: 1.6mm; Max Operating Temperature: 125°C; Min Operating Temperature: -55°C; Mount: Surface Mount; Number of Terminations: 2; Package Quantity: 1; Packaging: Tape and Reel; Resistance: 51R; Resistor Type: Thin Film; RoHS Compliant: Yes; Series: RR; Size Code: 0603; Technology: THIN FILM; Termination: SMD/SMT; Tolerance: 0.5%; Voltage Rating (DC): 75V; ComponentLink2URL: https://datasheet.ciiva.com/2498/rr-data-sheet-2498317.pdf?src-supplier=Digi-Key; ComponentLink2Description: https://datasheet.ciiva.com/2498/rr-data-sheet-2498317.pdf?src-supplier=Digi-Key
footprint R-0603 (Resistor  0603)
pins: 1, 2

## Test_Point
designator TP?  (value not drawn)
footprint Test_Point
pins: 1

## UCC27211D
designator U?
Half-Bridge Gate Driver IC Non-Inverting 8-SOIC; Manufacturer: Texas Instruments; Manufacturer Part Number: UCC27211D; Fall Time: 400ns; Max Output Current: 4A; Max Supply Current: 4.3mA; Max Supply Voltage: 17V; Min Supply Voltage: 8V; Number of Channels: 2; Operating Supply Voltage: 12V; Propagation Delay: 40ns; Rise Time: 600ns; Case/Package: SOIC; Category: Gate Drivers; Height: 1.5mm; Lead Free: Lead Free; Length: 5mm; Max Operating Temperature: 140°C; Min Operating Temperature: -40°C; Mount: Surface Mount; Nominal Supply Current: 4A; Number of Drivers: 2; Number of Outputs: 2; Number of Pins: 8; Output Current: 4A; Package Quantity: 75; Packaging: Rail/Tube; Radiation Hardening: No; REACH SVHC: No SVHC; RoHS Compliant: Yes; Series: -; Supply Current: 4A; Turn-On Delay Time: 40ns; Width: 4mm; ComponentLink1URL: https://datasheet.ciiva.com/1951/ucc27210-1951181.pdf?src-supplier=Digi-Key; ComponentLink1Description: https://datasheet.ciiva.com/1951/ucc27210-1951181.pdf?src-supplier=Digi-Key
footprint D-8 PIN 1.27pitch (Pitch 1.27mm)
pins: 1 VDD, 2 HB, 3 HO, 4 HS, 5 HI, 6 LI, 7 GND, 8 LO

## UUP1H0R1MCL1GS
designator C?, comment 0.1uF/35V
0.1µF 50V Aluminum Electrolytic Capacitors Radial, Can - SMD  1000 Hrs @ 105°C; Life (Hours): 1000Hour; Leakage Current: 10uA; Ripple Current: 1mA; Tolerance: 20%; Dissipation Factor: 0.15%; Capacitance: 100nF; Radiation Hardening: No; Max Operating Temperature: 105°C; Voltage Rating: 50V; Package Quantity: 2000; Diameter: 4mm; Voltage Rating (DC): 50V; Mount: Surface Mount; Packaging: Tape and Reel; Termination: SMD/SMT; Min Operating Temperature: 1000°C; Length: 5.8mm; Height: 5.8mm; Case/Package: Radial; Height - Seated (Max): 0.157inch
footprint FP-UUP1H0R1MCL1GS-MFG
pins: 1 C, 2 A
text: +

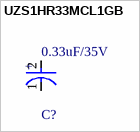
[diagram p1: symbol UZS1HR33MCL1GB]

## UZS1HR33MCL1GB
designator C?, comment 0.33uF/35V
0.33µF 50V Aluminum Electrolytic Capacitors Radial, Can - SMD  2000 Hrs @ 85°C; Manufacturer: Nichicon; Manufacturer Part Number: UZS1HR33MCL1GB; Capacitance: 330nF; Leakage Current: 3uA; Life (Hours): 2000Hour; Ripple Current: 2.8mA; Tolerance: 20%; Voltage Rating (DC): 50V; Case/Package: Radial; Category: Aluminum Electrolytic Capacitors; Features: General Purpose; Height - Seated (Max): 0.157inch; Length: 4.5mm; Max Operating Temperature: 85°C; Min Operating Temperature: -40°C; Mount: Surface Mount; Package Quantity: 2000; Packaging: Tape and Reel; RoHS Compliant: Yes; Series: ZS; Termination: SMD/SMT; Voltage Rating: 50V
footprint FP-UUP1H0R1MCL1GS-MFG
pins: 1 C, 2 A
text: +